# Altium integrated library Motorola Discrete BJT.IntLib: 383 symbols (part 4 of 6)
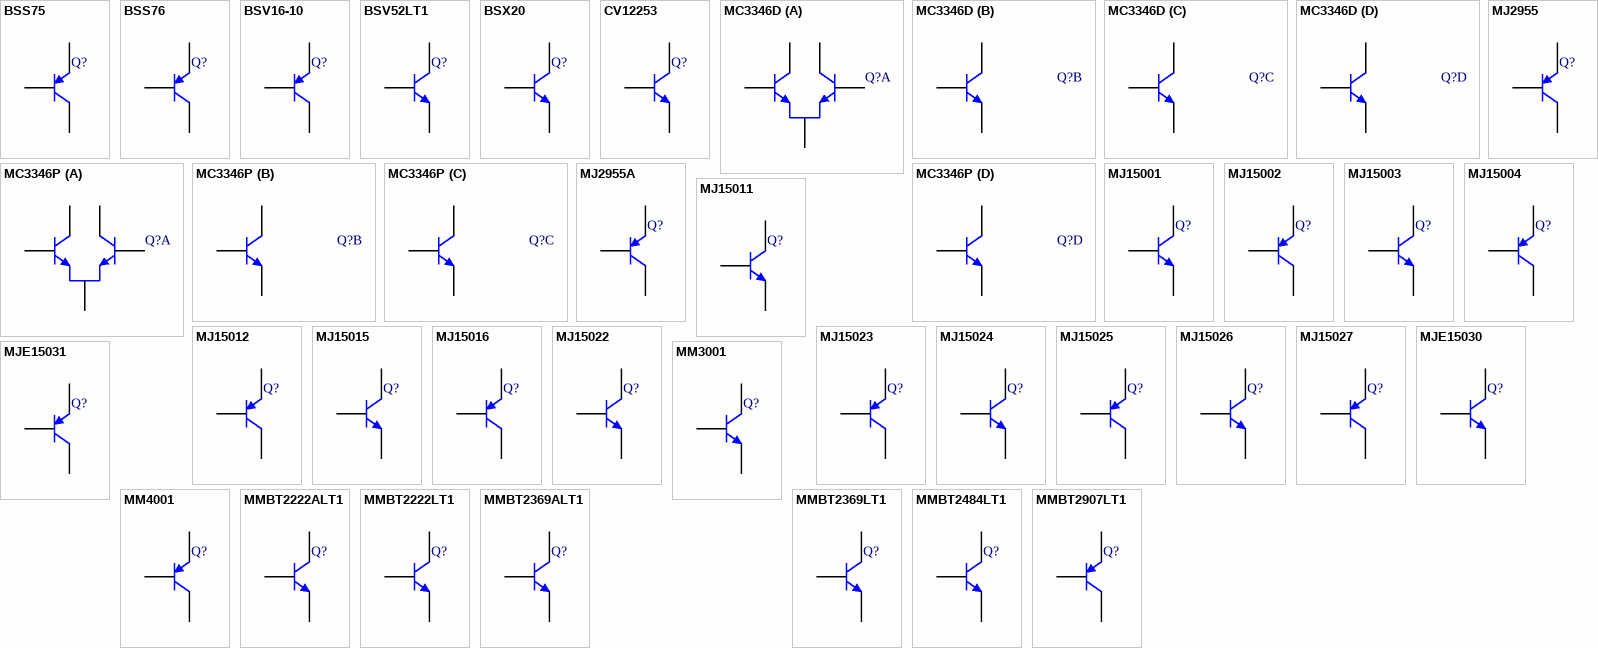
[diagram p14: symbols BSS75 to MMBT2907LT1]

## MJ2955A
designator Q?
Complementary Silicon High-Power PNP Transistor, 15 Amp, 60 Volts and 115 Watts; Published: 19-Mar-2004; DatasheetVersion: 1984; PackageVersion: Rev.3, 1984; PackageReference: 1-04; Publisher: Altium Limited; PackageDescription: Oval Flange Mount with (2) Offset Leads; Pin Spacing 10.92 mm; Lead Dia. 1.09 mm (max); Code_JEDEC: TO-204 AA; ComponentLink1Description: Manufacturer Link; ComponentLink1URL: http://www.onsemi.com/site/products/landing?taxonomyID=194
footprint 1-04 (Oval Flange Mount with (2) Offset Leads; Pin Spacing 10.92 mm; Lead Dia. 1.09 mm (max))
signal-integrity model MJ2955A
pins: 1 B, 2 E, 3 C

## MJ15001
designator Q?
Complementary Silicon Power NPN Transistor, 15 Amp, 140 Volts and 200 Watts; Published: 19-Mar-2004; DatasheetVersion: 1984; PackageVersion: Rev.3, 1984; PackageReference: 11-01; Publisher: Altium Limited; PackageDescription: Oval Flange Mount with (2) Offset Leads; Pin Spacing 10.93 mm; Lead Dia. 1.09 mm (max); Code_JEDEC: TO-3; ComponentLink1Description: Manufacturer Link; ComponentLink1URL: http://www.onsemi.com/site/products/landing?taxonomyID=194; ComponentLink2Description: Datasheet; ComponentLink2URL: http://www.onsemi.com/pub/Collateral/MJ15001-D.PDF
footprint 11-01 (Oval Flange Mount with (2) Offset Leads; Pin Spacing 10.93 mm; Lead Dia. 1.09 mm (max))
signal-integrity model MJ15001
pins: 1 B, 2 E, 3 C

## MJ15002
designator Q?
Complementary Silicon Power PNP Transistor, 15 Amp, 140 Volts and 200 Watts; Published: 19-Mar-2004; DatasheetVersion: 1984; PackageVersion: Rev.3, 1984; PackageReference: 11-01; Publisher: Altium Limited; PackageDescription: Oval Flange Mount with (2) Offset Leads; Pin Spacing 10.93 mm; Lead Dia. 1.09 mm (max); Code_JEDEC: TO-3; ComponentLink1Description: Manufacturer Link; ComponentLink1URL: http://www.onsemi.com/site/products/landing?taxonomyID=194; ComponentLink2Description: Datasheet; ComponentLink2URL: http://www.onsemi.com/pub/Collateral/MJ15001-D.PDF
footprint 11-01 (Oval Flange Mount with (2) Offset Leads; Pin Spacing 10.93 mm; Lead Dia. 1.09 mm (max))
signal-integrity model MJ15002
pins: 1 B, 2 E, 3 C

## MJ15003
designator Q?
Complementary Silicon Power NPN Transistor, 20 Amp, 140 Volts and 250 Watts; Published: 19-Mar-2004; DatasheetVersion: 1984; PackageVersion: Rev.3, 1984; PackageReference: 11-01; Publisher: Altium Limited; PackageDescription: Oval Flange Mount with (2) Offset Leads; Pin Spacing 10.93 mm; Lead Dia. 1.09 mm (max); Code_JEDEC: TO-3; ComponentLink1Description: Manufacturer Link; ComponentLink1URL: http://www.onsemi.com/site/products/landing?taxonomyID=194; ComponentLink2Description: Datasheet; ComponentLink2URL: http://www.onsemi.com/pub/Collateral/MJ15003-D.PDF
footprint 11-01 (Oval Flange Mount with (2) Offset Leads; Pin Spacing 10.93 mm; Lead Dia. 1.09 mm (max))
signal-integrity model MJ15003
pins: 1 B, 2 E, 3 C

## MJ15004
designator Q?
Complementary Silicon Power PNP Transistor, 20 Amp, 140 Volts and 250 Watts; Published: 19-Mar-2004; DatasheetVersion: 1984; PackageVersion: Rev.3, 1984; PackageReference: 11-01; Publisher: Altium Limited; PackageDescription: Oval Flange Mount with (2) Offset Leads; Pin Spacing 10.93 mm; Lead Dia. 1.09 mm (max); Code_JEDEC: TO-3; ComponentLink1Description: Manufacturer Link; ComponentLink1URL: http://www.onsemi.com/site/products/landing?taxonomyID=194; ComponentLink2Description: Datasheet; ComponentLink2URL: http://www.onsemi.com/pub/Collateral/MJ15003-D.PDF
footprint 11-01 (Oval Flange Mount with (2) Offset Leads; Pin Spacing 10.93 mm; Lead Dia. 1.09 mm (max))
signal-integrity model MJ15004
pins: 1 B, 2 E, 3 C

## MJ15011
designator Q?
Complementary Silicon Power NPN Transistor, 10 Amp, 250 Volts and 200 Watts; Published: 19-Mar-2004; DatasheetVersion: 1984; PackageVersion: Rev.3, 1984; PackageReference: 11-01; Publisher: Altium Limited; PackageDescription: Oval Flange Mount with (2) Offset Leads; Pin Spacing 10.93 mm; Lead Dia. 1.09 mm (max); Code_JEDEC: TO-3; ComponentLink1Description: Manufacturer Link; ComponentLink1URL: http://www.onsemi.com/site/products/landing?taxonomyID=194; ComponentLink2Description: Datasheet; ComponentLink2URL: http://www.onsemi.com/pub/Collateral/MJ15011-D.PDF
footprint 11-01 (Oval Flange Mount with (2) Offset Leads; Pin Spacing 10.93 mm; Lead Dia. 1.09 mm (max))
signal-integrity model MJ15011
pins: 1 B, 2 E, 3 C

## MJ15012
designator Q?
Complementary Silicon Power PNP Transistor, 10 Amp, 250 Volts and 200 Watts; Published: 19-Mar-2004; DatasheetVersion: 1984; PackageVersion: Rev.3, 1984; PackageReference: 11-01; Publisher: Altium Limited; PackageDescription: Oval Flange Mount with (2) Offset Leads; Pin Spacing 10.93 mm; Lead Dia. 1.09 mm (max); Code_JEDEC: TO-3; ComponentLink1Description: Manufacturer Link; ComponentLink1URL: http://www.onsemi.com/site/products/landing?taxonomyID=194; ComponentLink2Description: Datasheet; ComponentLink2URL: http://www.onsemi.com/pub/Collateral/MJ15011-D.PDF
footprint 11-01 (Oval Flange Mount with (2) Offset Leads; Pin Spacing 10.93 mm; Lead Dia. 1.09 mm (max))
signal-integrity model MJ15012
pins: 1 B, 2 E, 3 C

## MJ15015
designator Q?
Complementary Silicon High-Power NPN Transistor, 15 Amp, 120 Volts and 180 Watts; Published: 19-Mar-2004; DatasheetVersion: 1984; PackageVersion: Rev.3, 1984; PackageReference: 1-04; Publisher: Altium Limited; PackageDescription: Oval Flange Mount with (2) Offset Leads; Pin Spacing 10.92 mm; Lead Dia. 1.09 mm (max); Code_JEDEC: TO-204 AA; ComponentLink1Description: Manufacturer Link; ComponentLink1URL: http://www.onsemi.com/site/products/landing?taxonomyID=194; ComponentLink2Description: Datasheet; ComponentLink2URL: http://www.onsemi.com/pub/Collateral/2N3055A-D.PDF
footprint 1-04 (Oval Flange Mount with (2) Offset Leads; Pin Spacing 10.92 mm; Lead Dia. 1.09 mm (max))
signal-integrity model MJ15015
pins: 1 B, 2 E, 3 C

## MJ15016
designator Q?
Complementary Silicon High-Power PNP Transistor, 15 Amp, 120 Volts and 180 Watts; Published: 19-Mar-2004; DatasheetVersion: 1984; PackageVersion: Rev.3, 1984; PackageReference: 1-04; Publisher: Altium Limited; PackageDescription: Oval Flange Mount with (2) Offset Leads; Pin Spacing 10.92 mm; Lead Dia. 1.09 mm (max); Code_JEDEC: TO-204 AA; ComponentLink1Description: Manufacturer Link; ComponentLink1URL: http://www.onsemi.com/site/products/landing?taxonomyID=194; ComponentLink2Description: Datasheet; ComponentLink2URL: http://www.onsemi.com/pub/Collateral/2N3055A-D.PDF
footprint 1-04 (Oval Flange Mount with (2) Offset Leads; Pin Spacing 10.92 mm; Lead Dia. 1.09 mm (max))
signal-integrity model MJ15016
pins: 1 B, 2 E, 3 C

## MJ15022
designator Q?
Silicon Power NPN Transistor, 16 Amp, 200 Volts and 250 Watts; Published: 19-Mar-2004; DatasheetVersion: 1984; PackageVersion: Rev.3, 1984; PackageReference: 1-04; Publisher: Altium Limited; PackageDescription: Oval Flange Mount with (2) Offset Leads; Pin Spacing 10.92 mm; Lead Dia. 1.09 mm (max); Code_JEDEC: TO-204 AA; ComponentLink1Description: Manufacturer Link; ComponentLink1URL: http://www.onsemi.com/site/products/landing?taxonomyID=194; ComponentLink2Description: Datasheet; ComponentLink2URL: http://www.onsemi.com/pub/Collateral/MJ15022-D.PDF
footprint 1-04 (Oval Flange Mount with (2) Offset Leads; Pin Spacing 10.92 mm; Lead Dia. 1.09 mm (max))
signal-integrity model MJ15022
pins: 1 B, 2 E, 3 C

## MJ15023
designator Q?
Silicon Power PNP Transistor, 16 Amp, 200 Volts and 250 Watts; Published: 19-Mar-2004; DatasheetVersion: 1984; PackageVersion: Rev.3, 1984; PackageReference: 1-04; Publisher: Altium Limited; PackageDescription: Oval Flange Mount with (2) Offset Leads; Pin Spacing 10.92 mm; Lead Dia. 1.09 mm (max); Code_JEDEC: TO-204 AA; ComponentLink1Description: Manufacturer Link; ComponentLink1URL: http://www.onsemi.com/site/products/landing?taxonomyID=194; ComponentLink2Description: Datasheet; ComponentLink2URL: http://www.onsemi.com/pub/Collateral/MJ15023-D.PDF
footprint 1-04 (Oval Flange Mount with (2) Offset Leads; Pin Spacing 10.92 mm; Lead Dia. 1.09 mm (max))
signal-integrity model MJ15023
pins: 1 B, 2 E, 3 C

## MJ15024
designator Q?
Silicon Power NPN Transistor, 16 Amp, 250 Volts and 250 Watts; Published: 19-Mar-2004; DatasheetVersion: 1984; PackageVersion: Rev.3, 1984; PackageReference: 1-04; Publisher: Altium Limited; PackageDescription: Oval Flange Mount with (2) Offset Leads; Pin Spacing 10.92 mm; Lead Dia. 1.09 mm (max); Code_JEDEC: TO-204 AA; ComponentLink1Description: Manufacturer Link; ComponentLink1URL: http://www.onsemi.com/site/products/landing?taxonomyID=194; ComponentLink2Description: Datasheet; ComponentLink2URL: http://www.onsemi.com/pub/Collateral/MJ15022-D.PDF
footprint 1-04 (Oval Flange Mount with (2) Offset Leads; Pin Spacing 10.92 mm; Lead Dia. 1.09 mm (max))
signal-integrity model MJ15024
pins: 1 B, 2 E, 3 C

## MJ15025
designator Q?
Silicon Power PNP Transistor, 16 Amp, 250 Volts and 250 Watts; Published: 19-Mar-2004; DatasheetVersion: 1984; PackageVersion: Rev.3, 1984; PackageReference: 1-04; Publisher: Altium Limited; PackageDescription: Oval Flange Mount with (2) Offset Leads; Pin Spacing 10.92 mm; Lead Dia. 1.09 mm (max); Code_JEDEC: TO-204 AA; ComponentLink1Description: Manufacturer Link; ComponentLink1URL: http://www.onsemi.com/site/products/landing?taxonomyID=194; ComponentLink2Description: Datasheet; ComponentLink2URL: http://www.onsemi.com/pub/Collateral/MJ15023-D.PDF
footprint 1-04 (Oval Flange Mount with (2) Offset Leads; Pin Spacing 10.92 mm; Lead Dia. 1.09 mm (max))
signal-integrity model MJ15025
pins: 1 B, 2 E, 3 C

## MJ15026
designator Q?
Complementary Silicon Power NPN Transistor, 16 Amp, 200 Volts and 250 Watts; Published: 19-Mar-2004; DatasheetVersion: 1984; PackageVersion: Rev.3, 1984; PackageReference: 1-04; Publisher: Altium Limited; PackageDescription: Oval Flange Mount with (2) Offset Leads; Pin Spacing 10.92 mm; Lead Dia. 1.09 mm (max); Code_JEDEC: TO-204 AA; ComponentLink1Description: Manufacturer Link; ComponentLink1URL: http://www.onsemi.com/site/products/landing?taxonomyID=194
footprint 1-04 (Oval Flange Mount with (2) Offset Leads; Pin Spacing 10.92 mm; Lead Dia. 1.09 mm (max))
signal-integrity model MJ15026
pins: 1 B, 2 E, 3 C

## MJ15027
designator Q?
Complementary Silicon Power PNP Transistor, 16 Amp, 200 Volts and 250 Watts; Published: 19-Mar-2004; DatasheetVersion: 1984; PackageVersion: Rev.3, 1984; PackageReference: 1-04; Publisher: Altium Limited; PackageDescription: Oval Flange Mount with (2) Offset Leads; Pin Spacing 10.92 mm; Lead Dia. 1.09 mm (max); Code_JEDEC: TO-204 AA; ComponentLink1Description: Manufacturer Link; ComponentLink1URL: http://www.onsemi.com/site/products/landing?taxonomyID=194
footprint 1-04 (Oval Flange Mount with (2) Offset Leads; Pin Spacing 10.92 mm; Lead Dia. 1.09 mm (max))
signal-integrity model MJ15027
pins: 1 B, 2 E, 3 C

## MJE15030
designator Q?
Complementary Silicon Plastic Power Transistor; Note: Pin 2 is electrically connected to Pin 4 (TAB); Published: 29-Sep-2000; LatestRevisionDate: 17-Jul-2002; LatestRevisionNote: Re-released for DXP Platform.; DatasheetVersion: 1995; PackageVersion: 1997; PackageReference: 221A-06; Publisher: Altium Limited; PackageDescription: TO, Thru-Hole, Vertical, Heatsink Mounted; 3 In-Line Leads; Pitch 2.54 mm; Code_JEDEC: TO-262-AA; ComponentLink1Description: Manufacturer Link; ComponentLink1URL: http://www.onsemi.com/site/products/landing?taxonomyID=194; ComponentLink2Description: Datasheet; ComponentLink2URL: http://www.onsemi.com/pub/Collateral/MJE15028-D.PDF
footprint 221A-06 (TO, Thru-Hole, Vertical, Heatsink Mounted; 3 In-Line Leads; Pitch 2.54 mm)
simulation model MJE15030 (SUBCKT)
signal-integrity model MJE15030
pins: 1 B, 2 C, 3 E

## MJE15031
designator Q?
Complementary Silicon Plastic Power Transistor; Note: Pin 2 is electrically connected to Pin 4 (TAB); Published: 29-Sep-2000; LatestRevisionDate: 17-Jul-2002; LatestRevisionNote: Re-released for DXP Platform.; DatasheetVersion: 1995; PackageVersion: 1997; PackageReference: 221A-06; Publisher: Altium Limited; PackageDescription: TO, Thru-Hole, Vertical, Heatsink Mounted; 3 In-Line Leads; Pitch 2.54 mm; Code_JEDEC: TO-262-AA; ComponentLink1Description: Manufacturer Link; ComponentLink1URL: http://www.onsemi.com/site/products/landing?taxonomyID=194; ComponentLink2Description: Datasheet; ComponentLink2URL: http://www.onsemi.com/pub/Collateral/MJE15028-D.PDF
footprint 221A-06 (TO, Thru-Hole, Vertical, Heatsink Mounted; 3 In-Line Leads; Pitch 2.54 mm)
simulation model MJE15031 (SUBCKT)
signal-integrity model MJE15031
pins: 1 B, 2 C, 3 E

## MM3001
designator Q?
General Purpose Transistor NPN Silicon; Published: 29-Sep-2000; LatestRevisionDate: 17-Jul-2002; LatestRevisionNote: Re-released for DXP Platform.; PackageVersion: 1997; PackageReference: 79-04; Publisher: Altium Limited; PackageDescription: Can; 3 Leads; Pin Circle Dia. 5.08 mm; Lead Dia. 0.48 mm (max); ComponentLink1Description: Manufacturer Link; ComponentLink1URL: http://www.onsemi.com/site/products/landing?taxonomyID=194
footprint 79-04 (Can; 3 Leads; Pin Circle Dia. 5.08 mm; Lead Dia. 0.48 mm (max))
simulation model MM3001 (NPN)
signal-integrity model MM3001
pins: 1 E, 2 B, 3 C

## MM4001
designator Q?
General Purpose Transistor PNP Silicon; Published: 29-Sep-2000; LatestRevisionDate: 17-Jul-2002; LatestRevisionNote: Re-released for DXP Platform.; DatasheetVersion: 1991; PackageVersion: 1997; PackageReference: 79-04; Publisher: Altium Limited; PackageDescription: Can; 3 Leads; Pin Circle Dia. 5.08 mm; Lead Dia. 0.48 mm (max); ComponentLink1Description: Manufacturer Link; ComponentLink1URL: http://www.onsemi.com/site/products/landing?taxonomyID=194
footprint 79-04 (Can; 3 Leads; Pin Circle Dia. 5.08 mm; Lead Dia. 0.48 mm (max))
simulation model MM4001 (PNP)
signal-integrity model MM4001
pins: 1 E, 2 B, 3 C

## MMBT2222ALT1
designator Q?
General Purpose Transistor NPN Silicon; Published: 29-Sep-2000; LatestRevisionDate: 17-Jul-2002; LatestRevisionNote: Re-released for DXP Platform.; DatasheetVersion: 1996; PackageVersion: 1997; PackageReference: 318-08; Publisher: Altium Limited; PackageDescription: SOT-23; 3 Leads; Body 3.0 x 2.6 mm, inc. leads (LxW max); ComponentLink1Description: Manufacturer Link; ComponentLink1URL: http://www.onsemi.com/site/products/landing?taxonomyID=194; ComponentLink2Description: Datasheet; ComponentLink2URL: http://www.onsemi.com/pub/Collateral/MMBT2222LT1-D.PDF
footprint 318-08 (SOT-23; 3 Leads; Body 3.0 x 2.6 mm, inc. leads (LxW max))
simulation model MMBT2222ALT1 (NPN)
signal-integrity model MMBT2222ALT1
pins: 1 B, 2 E, 3 C

## MMBT2222LT1
designator Q?
General Purpose Transistor NPN Silicon; Published: 29-Sep-2000; LatestRevisionDate: 17-Jul-2002; LatestRevisionNote: Re-released for DXP Platform.; DatasheetVersion: 1996; PackageVersion: 1997; PackageReference: 318-08; Publisher: Altium Limited; PackageDescription: SOT-23; 3 Leads; Body 3.0 x 2.6 mm, inc. leads (LxW max); ComponentLink1Description: Manufacturer Link; ComponentLink1URL: http://www.onsemi.com/site/products/landing?taxonomyID=194; ComponentLink2Description: Datasheet; ComponentLink2URL: http://www.onsemi.com/pub/Collateral/MMBT2222LT1-D.PDF
footprint 318-08 (SOT-23; 3 Leads; Body 3.0 x 2.6 mm, inc. leads (LxW max))
simulation model MMBT2222LT1 (NPN)
signal-integrity model MMBT2222LT1
pins: 1 B, 2 E, 3 C

## MMBT2369ALT1
designator Q?
Switching Transistor NPN Silicon; Published: 29-Sep-2000; LatestRevisionDate: 17-Jul-2002; LatestRevisionNote: Re-released for DXP Platform.; DatasheetVersion: 1996; PackageVersion: 1997; PackageReference: 318-08; Publisher: Altium Limited; PackageDescription: SOT-23; 3 Leads; Body 3.0 x 2.6 mm, inc. leads (LxW max); ComponentLink1Description: Manufacturer Link; ComponentLink1URL: http://www.onsemi.com/site/products/landing?taxonomyID=194; ComponentLink2Description: Datasheet; ComponentLink2URL: http://www.onsemi.com/pub/Collateral/MMBT2369LT1-D.PDF
footprint 318-08 (SOT-23; 3 Leads; Body 3.0 x 2.6 mm, inc. leads (LxW max))
simulation model MMBT2369ALT1 (NPN)
signal-integrity model MMBT2369ALT1
pins: 1 B, 2 E, 3 C

## MMBT2369LT1
designator Q?
Switching Transistor NPN Silicon; Published: 29-Sep-2000; LatestRevisionDate: 17-Jul-2002; LatestRevisionNote: Re-released for DXP Platform.; DatasheetVersion: 1996; PackageVersion: 1997; PackageReference: 318-08; Publisher: Altium Limited; PackageDescription: SOT-23; 3 Leads; Body 3.0 x 2.6 mm, inc. leads (LxW max); ComponentLink1Description: Manufacturer Link; ComponentLink1URL: http://www.onsemi.com/site/products/landing?taxonomyID=194; ComponentLink2Description: Datasheet; ComponentLink2URL: http://www.onsemi.com/pub/Collateral/MMBT2369LT1-D.PDF
footprint 318-08 (SOT-23; 3 Leads; Body 3.0 x 2.6 mm, inc. leads (LxW max))
simulation model MMBT2369LT1 (NPN)
signal-integrity model MMBT2369LT1
pins: 1 B, 2 E, 3 C

## MMBT2484LT1
designator Q?
Low Noise Transistor NPN Silicon; Published: 29-Sep-2000; LatestRevisionDate: 17-Jul-2002; LatestRevisionNote: Re-released for DXP Platform.; DatasheetVersion: 1996; PackageVersion: 1997; PackageReference: 318-08; Publisher: Altium Limited; PackageDescription: SOT-23; 3 Leads; Body 3.0 x 2.6 mm, inc. leads (LxW max); ComponentLink1Description: Manufacturer Link; ComponentLink1URL: http://www.onsemi.com/site/products/landing?taxonomyID=194; ComponentLink2Description: Datasheet; ComponentLink2URL: http://www.onsemi.com/pub/Collateral/MMBT2484LT1-D.PDF
footprint 318-08 (SOT-23; 3 Leads; Body 3.0 x 2.6 mm, inc. leads (LxW max))
simulation model MMBT2484LT1 (NPN)
signal-integrity model MMBT2484LT1
pins: 1 B, 2 E, 3 C

## MMBT2907LT1
designator Q?
General Purpose Transistor PNP Silicon; Published: 29-Sep-2000; LatestRevisionDate: 17-Jul-2002; LatestRevisionNote: Re-released for DXP Platform.; DatasheetVersion: 1996; PackageVersion: 1997; PackageReference: 318-08; Publisher: Altium Limited; PackageDescription: SOT-23; 3 Leads; Body 3.0 x 2.6 mm, inc. leads (LxW max); ComponentLink1Description: Manufacturer Link; ComponentLink1URL: http://www.onsemi.com/site/products/landing?taxonomyID=194
footprint 318-08 (SOT-23; 3 Leads; Body 3.0 x 2.6 mm, inc. leads (LxW max))
simulation model MMBT2907LT1 (PNP)
signal-integrity model MMBT2907LT1
pins: 1 B, 2 E, 3 C

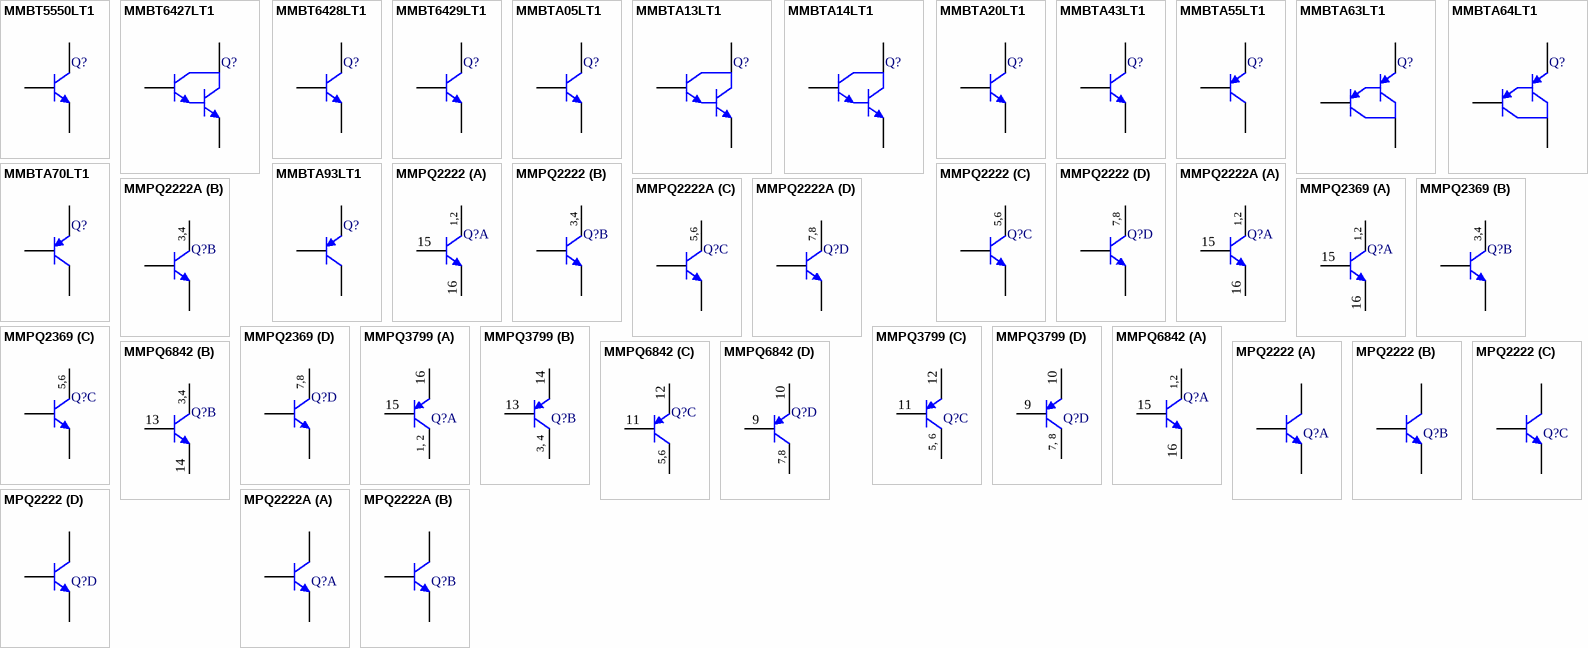
[diagram p6: symbols MMBT5550LT1 to MPQ2222A]

## MMBT5550LT1
designator Q?
High Voltage Transistor NPN Silicon; Published: 29-Sep-2000; LatestRevisionDate: 17-Jul-2002; LatestRevisionNote: Re-released for DXP Platform.; DatasheetVersion: 1996; PackageVersion: 1997; PackageReference: 318-08; Publisher: Altium Limited; PackageDescription: SOT-23; 3 Leads; Body 3.0 x 2.6 mm, inc. leads (LxW max); ComponentLink1Description: Manufacturer Link; ComponentLink1URL: http://www.onsemi.com/site/products/landing?taxonomyID=194; ComponentLink2Description: Datasheet; ComponentLink2URL: http://www.onsemi.com/pub/Collateral/MMBT5550LT1-D.PDF
footprint 318-08 (SOT-23; 3 Leads; Body 3.0 x 2.6 mm, inc. leads (LxW max))
simulation model MMBT5550LT1 (NPN)
signal-integrity model MMBT5550LT1
pins: 1 B, 2 E, 3 C

## MMBT6427LT1
designator Q?
Darlington Transistor NPN Silicon; Published: 29-Sep-2000; LatestRevisionDate: 17-Jul-2002; LatestRevisionNote: Re-released for DXP Platform.; DatasheetVersion: 1996; PackageVersion: 1997; PackageReference: 318-08; Publisher: Altium Limited; PackageDescription: SOT-23; 3 Leads; Body 3.0 x 2.6 mm, inc. leads (LxW max); ComponentLink1Description: Manufacturer Link; ComponentLink1URL: http://www.onsemi.com/site/products/landing?taxonomyID=194; ComponentLink2Description: Datasheet; ComponentLink2URL: http://www.onsemi.com/pub/Collateral/MMBT6427LT1-D.PDF
footprint 318-08 (SOT-23; 3 Leads; Body 3.0 x 2.6 mm, inc. leads (LxW max))
simulation model MMBT6427LT1 (SUBCKT)
pins: 1 B, 2 E, 3 C

## MMBT6428LT1
designator Q?
Amplifier Transistor NPN Silicon; Published: 29-Sep-2000; LatestRevisionDate: 17-Jul-2002; LatestRevisionNote: Re-released for DXP Platform.; DatasheetVersion: 1996; PackageVersion: 1997; PackageReference: 318-08; Publisher: Altium Limited; PackageDescription: SOT-23; 3 Leads; Body 3.0 x 2.6 mm, inc. leads (LxW max); ComponentLink1Description: Manufacturer Link; ComponentLink1URL: http://www.onsemi.com/site/products/landing?taxonomyID=194; ComponentLink2Description: Datasheet; ComponentLink2URL: http://www.onsemi.com/pub/Collateral/MMBT6428LT1-D.PDF
footprint 318-08 (SOT-23; 3 Leads; Body 3.0 x 2.6 mm, inc. leads (LxW max))
simulation model MMBT6428LT1 (NPN)
signal-integrity model MMBT6428LT1
pins: 1 B, 2 E, 3 C

## MMBT6429LT1
designator Q?
Amplifier Transistor NPN Silicon; Published: 29-Sep-2000; LatestRevisionDate: 17-Jul-2002; LatestRevisionNote: Re-released for DXP Platform.; DatasheetVersion: 1996; PackageVersion: 1997; PackageReference: 318-08; Publisher: Altium Limited; PackageDescription: SOT-23; 3 Leads; Body 3.0 x 2.6 mm, inc. leads (LxW max); ComponentLink1Description: Manufacturer Link; ComponentLink1URL: http://www.onsemi.com/site/products/landing?taxonomyID=194; ComponentLink2Description: Datasheet; ComponentLink2URL: http://www.onsemi.com/pub/Collateral/MMBT6428LT1-D.PDF
footprint 318-08 (SOT-23; 3 Leads; Body 3.0 x 2.6 mm, inc. leads (LxW max))
simulation model MMBT6429LT1 (NPN)
signal-integrity model MMBT6429LT1
pins: 1 B, 2 E, 3 C

## MMBTA05LT1
designator Q?
Driver Transistor NPN Silicon; Published: 29-Sep-2000; LatestRevisionDate: 17-Jul-2002; LatestRevisionNote: Re-released for DXP Platform.; DatasheetVersion: 1996; PackageVersion: 1997; PackageReference: 318-08; Publisher: Altium Limited; PackageDescription: SOT-23; 3 Leads; Body 3.0 x 2.6 mm, inc. leads (LxW max); ComponentLink1Description: Manufacturer Link; ComponentLink1URL: http://www.onsemi.com/site/products/landing?taxonomyID=194; ComponentLink2Description: Datasheet; ComponentLink2URL: http://www.onsemi.com/pub/Collateral/MMBTA05LT1-D.PDF
footprint 318-08 (SOT-23; 3 Leads; Body 3.0 x 2.6 mm, inc. leads (LxW max))
simulation model MMBTA05LT1 (NPN)
signal-integrity model MMBTA05LT1
pins: 1 B, 2 E, 3 C

## MMBTA13LT1
designator Q?
Darlington Amplifier Transistor NPN Silicon; Published: 29-Sep-2000; LatestRevisionDate: 17-Jul-2002; LatestRevisionNote: Re-released for DXP Platform.; DatasheetVersion: 1996; PackageVersion: 1997; PackageReference: 318-08; Publisher: Altium Limited; PackageDescription: SOT-23; 3 Leads; Body 3.0 x 2.6 mm, inc. leads (LxW max); ComponentLink1Description: Manufacturer Link; ComponentLink1URL: http://www.onsemi.com/site/products/landing?taxonomyID=194; ComponentLink2Description: Datasheet; ComponentLink2URL: http://www.onsemi.com/pub/Collateral/MMBTA13LT1-D.PDF
footprint 318-08 (SOT-23; 3 Leads; Body 3.0 x 2.6 mm, inc. leads (LxW max))
simulation model MMBTA13LT1 (SUBCKT)
pins: 1 B, 2 E, 3 C

## MMBTA14LT1
designator Q?
Darlington Amplifier Transistor NPN Silicon; Published: 29-Sep-2000; LatestRevisionDate: 17-Jul-2002; LatestRevisionNote: Re-released for DXP Platform.; DatasheetVersion: 1996; PackageVersion: 1997; PackageReference: 318-08; Publisher: Altium Limited; PackageDescription: SOT-23; 3 Leads; Body 3.0 x 2.6 mm, inc. leads (LxW max); ComponentLink1Description: Manufacturer Link; ComponentLink1URL: http://www.onsemi.com/site/products/landing?taxonomyID=194; ComponentLink2Description: Datasheet; ComponentLink2URL: http://www.onsemi.com/pub/Collateral/MMBTA13LT1-D.PDF
footprint 318-08 (SOT-23; 3 Leads; Body 3.0 x 2.6 mm, inc. leads (LxW max))
simulation model MMBTA14LT1 (SUBCKT)
pins: 1 B, 2 E, 3 C

## MMBTA20LT1
designator Q?
General Purpose Amplifier NPN Silicon; Published: 29-Sep-2000; LatestRevisionDate: 17-Jul-2002; LatestRevisionNote: Re-released for DXP Platform.; DatasheetVersion: 1996; PackageVersion: 1997; PackageReference: 318-08; Publisher: Altium Limited; PackageDescription: SOT-23; 3 Leads; Body 3.0 x 2.6 mm, inc. leads (LxW max); ComponentLink1Description: Manufacturer Link; ComponentLink1URL: http://www.onsemi.com/site/products/landing?taxonomyID=194; ComponentLink2Description: Datasheet; ComponentLink2URL: http://www.onsemi.com/pub/Collateral/MMBTA20LT1-D.PDF
footprint 318-08 (SOT-23; 3 Leads; Body 3.0 x 2.6 mm, inc. leads (LxW max))
simulation model MMBTA20LT1 (NPN)
signal-integrity model MMBTA20LT1
pins: 1 B, 2 E, 3 C

## MMBTA43LT1
designator Q?
High Voltage Transistor NPN Silicon; Published: 29-Sep-2000; LatestRevisionDate: 17-Jul-2002; LatestRevisionNote: Re-released for DXP Platform.; DatasheetVersion: 1991; PackageReference: 318-07; Publisher: Altium Limited; PackageDescription: SOT-23; 3 Leads; Body 3.0 x 2.5 mm, inc. leads (LxW max); ComponentLink1Description: Manufacturer Link; ComponentLink1URL: http://www.onsemi.com/site/products/landing?taxonomyID=194; ComponentLink2Description: Datasheet; ComponentLink2URL: http://www.onsemi.com/pub/Collateral/MMBTA42LT1-D.PDF
footprint 318-07 (SOT-23; 3 Leads; Body 3.0 x 2.5 mm, inc. leads (LxW max))
simulation model MMBTA43LT1 (NPN)
signal-integrity model MMBTA43LT1
pins: 1 B, 2 E, 3 C

## MMBTA55LT1
designator Q?
Driver Transistor PNP Silicon; Published: 29-Sep-2000; LatestRevisionDate: 17-Jul-2002; LatestRevisionNote: Re-released for DXP Platform.; DatasheetVersion: 1996; PackageVersion: 1997; PackageReference: 318-08; Publisher: Altium Limited; PackageDescription: SOT-23; 3 Leads; Body 3.0 x 2.6 mm, inc. leads (LxW max); ComponentLink1Description: Manufacturer Link; ComponentLink1URL: http://www.onsemi.com/site/products/landing?taxonomyID=194; ComponentLink2Description: Datasheet; ComponentLink2URL: http://www.onsemi.com/pub/Collateral/MMBTA55LT1-D.PDF
footprint 318-08 (SOT-23; 3 Leads; Body 3.0 x 2.6 mm, inc. leads (LxW max))
simulation model MMBTA55LT1 (PNP)
signal-integrity model MMBTA55LT1
pins: 1 B, 2 E, 3 C

## MMBTA63LT1
designator Q?
Darlington Transistor PNP Silicon; Published: 29-Sep-2000; LatestRevisionDate: 17-Jul-2002; LatestRevisionNote: Re-released for DXP Platform.; DatasheetVersion: 1996; PackageVersion: 1997; PackageReference: 318-08; Publisher: Altium Limited; PackageDescription: SOT-23; 3 Leads; Body 3.0 x 2.6 mm, inc. leads (LxW max); ComponentLink1Description: Manufacturer Link; ComponentLink1URL: http://www.onsemi.com/site/products/landing?taxonomyID=194; ComponentLink2Description: Datasheet; ComponentLink2URL: http://www.onsemi.com/pub/Collateral/MMBTA63LT1-D.PDF
footprint 318-08 (SOT-23; 3 Leads; Body 3.0 x 2.6 mm, inc. leads (LxW max))
simulation model MMBTA63LT1 (SUBCKT)
pins: 1 B, 2 E, 3 C

## MMBTA64LT1
designator Q?
Darlington Transistor PNP Silicon; Published: 29-Sep-2000; LatestRevisionDate: 17-Jul-2002; LatestRevisionNote: Re-released for DXP Platform.; DatasheetVersion: 1996; PackageVersion: 1997; PackageReference: 318-08; Publisher: Altium Limited; PackageDescription: SOT-23; 3 Leads; Body 3.0 x 2.6 mm, inc. leads (LxW max); ComponentLink1Description: Manufacturer Link; ComponentLink1URL: http://www.onsemi.com/site/products/landing?taxonomyID=194; ComponentLink2Description: Datasheet; ComponentLink2URL: http://www.onsemi.com/pub/Collateral/MMBTA63LT1-D.PDF
footprint 318-08 (SOT-23; 3 Leads; Body 3.0 x 2.6 mm, inc. leads (LxW max))
simulation model MMBTA64LT1 (SUBCKT)
pins: 1 B, 2 E, 3 C

## MMBTA70LT1
designator Q?
General Purpose Transistor PNP Silicon; Published: 29-Sep-2000; LatestRevisionDate: 17-Jul-2002; LatestRevisionNote: Re-released for DXP Platform.; DatasheetVersion: 1996; PackageVersion: 1997; PackageReference: 318-08; Publisher: Altium Limited; PackageDescription: SOT-23; 3 Leads; Body 3.0 x 2.6 mm, inc. leads (LxW max); ComponentLink1Description: Manufacturer Link; ComponentLink1URL: http://www.onsemi.com/site/products/landing?taxonomyID=194; ComponentLink2Description: Datasheet; ComponentLink2URL: http://www.onsemi.com/pub/Collateral/MMBTA70LT1-D.PDF
footprint 318-08 (SOT-23; 3 Leads; Body 3.0 x 2.6 mm, inc. leads (LxW max))
simulation model MMBTA70LT1 (PNP)
signal-integrity model MMBTA70LT1
pins: 1 B, 2 E, 3 C

## MMBTA93LT1
designator Q?
High Voltage Transistor PNP Silicon; Published: 29-Sep-2000; LatestRevisionDate: 17-Jul-2002; LatestRevisionNote: Re-released for DXP Platform.; DatasheetVersion: 1991; PackageReference: 318-07; Publisher: Altium Limited; PackageDescription: SOT-23; 3 Leads; Body 3.0 x 2.5 mm, inc. leads (LxW max); ComponentLink1Description: Manufacturer Link; ComponentLink1URL: http://www.onsemi.com/site/products/landing?taxonomyID=194; ComponentLink2Description: Datasheet; ComponentLink2URL: http://www.onsemi.com/pub/Collateral/MMBTA92LT1-D.PDF
footprint 318-07 (SOT-23; 3 Leads; Body 3.0 x 2.5 mm, inc. leads (LxW max))
simulation model MMBTA93LT1 (PNP)
signal-integrity model MMBTA93LT1
pins: 1 B, 2 E, 3 C

## MMPQ2222
designator Q?
Quad General Purpose Transistor NPN Silicon; Published: 29-Sep-2000; LatestRevisionDate: 13-Apr-2006; LatestRevisionNote: IPC-7351 Footprint Added.; DatasheetVersion: 1991; PackageVersion: 1991; PackageReference: 751B-03; Publisher: Altium Limited; PackageDescription: 16-Pin Small Outline Integrated Circuit 1.27 mm Pitch; Code_JEDEC: MS-012-AC; Code_IPC: SOIC127P600-16; ComponentLink1Description: Manufacturer Link; ComponentLink1URL: http://www.onsemi.com/site/products/landing?taxonomyID=194; ComponentLink2Description: Datasheet; ComponentLink2URL: http://www.onsemi.com/pub/Collateral/MMPQ2222A-D.PDF
footprint 751B-03_N (SOIC, 16-Leads, Body 9.9x3.9mm, Pitch 1.27mm, IPC Medium Density)
footprint 751B-03_L (SOIC, 16-Leads, Body 9.9x3.9mm, Pitch 1.27mm, IPC High Density)
footprint 751B-03_M (SOIC, 16-Leads, Body 9.9x3.9mm, Pitch 1.27mm, IPC Low Density)
3D model 751B-03 (16-Pin Small Outline Integrated Circuit 1.27 mm Pitch)
simulation model MMPQ2222 (NPN)
signal-integrity model MMPQ2222
part A pins: 1 C, 2 C, 15 B, 16 E
part B pins: 3 C, 4 C, 13 B, 14 E
part C pins: 5 C, 6 C, 11 B, 12 E
part D pins: 7 C, 8 C, 9 B, 10 E
part A text: 1,2
part B text: 3,4
part C text: 5,6
part D text: 7,8

## MMPQ2222A
designator Q?
Quad General Purpose Transistor NPN Silicon; Published: 29-Sep-2000; LatestRevisionDate: 13-Apr-2006; LatestRevisionNote: IPC-7351 Footprint Added.; DatasheetVersion: 1991; PackageVersion: 1991; PackageReference: 751B-03; Publisher: Altium Limited; PackageDescription: 16-Pin Small Outline Integrated Circuit 1.27 mm Pitch; Code_JEDEC: MS-012-AC; Code_IPC: SOIC127P600-16; ComponentLink1Description: Manufacturer Link; ComponentLink1URL: http://www.onsemi.com/site/products/landing?taxonomyID=194; ComponentLink2Description: Datasheet; ComponentLink2URL: http://www.onsemi.com/pub/Collateral/MMPQ2222A-D.PDF
footprint 751B-03_N (SOIC, 16-Leads, Body 9.9x3.9mm, Pitch 1.27mm, IPC Medium Density)
footprint 751B-03_L (SOIC, 16-Leads, Body 9.9x3.9mm, Pitch 1.27mm, IPC High Density)
footprint 751B-03_M (SOIC, 16-Leads, Body 9.9x3.9mm, Pitch 1.27mm, IPC Low Density)
3D model 751B-03 (16-Pin Small Outline Integrated Circuit 1.27 mm Pitch)
simulation model MMPQ2222A (NPN)
signal-integrity model MMPQ2222A
part A pins: 1 C, 2 C, 15 B, 16 E
part B pins: 3 C, 4 C, 13 B, 14 E
part C pins: 5 C, 6 C, 11 B, 12 E
part D pins: 7 C, 8 C, 9 B, 10 E
part A text: 1,2
part B text: 3,4
part C text: 5,6
part D text: 7,8

## MMPQ2369
designator Q?
Quad Switching Transistor NPN Silicon; Published: 29-Sep-2000; LatestRevisionDate: 13-Apr-2006; LatestRevisionNote: IPC-7351 Footprint Added.; DatasheetVersion: 1991; PackageVersion: 1991; PackageReference: 751B-03; Publisher: Altium Limited; PackageDescription: 16-Pin Small Outline Integrated Circuit 1.27 mm Pitch; Code_JEDEC: MS-012-AC; Code_IPC: SOIC127P600-16; ComponentLink1Description: Manufacturer Link; ComponentLink1URL: http://www.onsemi.com/site/products/landing?taxonomyID=194; ComponentLink2Description: Datasheet; ComponentLink2URL: http://www.onsemi.com/pub/Collateral/MMPQ2369-D.PDF
footprint 751B-03_N (SOIC, 16-Leads, Body 9.9x3.9mm, Pitch 1.27mm, IPC Medium Density)
footprint 751B-03_L (SOIC, 16-Leads, Body 9.9x3.9mm, Pitch 1.27mm, IPC High Density)
footprint 751B-03_M (SOIC, 16-Leads, Body 9.9x3.9mm, Pitch 1.27mm, IPC Low Density)
3D model 751B-03 (16-Pin Small Outline Integrated Circuit 1.27 mm Pitch)
simulation model MMPQ2369 (NPN)
signal-integrity model MMPQ2369
part A pins: 1 C, 2 C, 15 B, 16 E
part B pins: 3 C, 4 C, 13 B, 14 E
part C pins: 5 C, 6 C, 11 B, 12 E
part D pins: 7 C, 8 C, 9 B, 10 E
part A text: 1,2
part B text: 3,4
part C text: 5,6
part D text: 7,8

## MMPQ3799
designator Q?
Quad Amplifier Transistor PNP Silicon; Published: 29-Sep-2000; LatestRevisionDate: 13-Apr-2006; LatestRevisionNote: IPC-7351 Footprint Added.; DatasheetVersion: 1991; PackageVersion: 1991; PackageReference: 751B-03; Publisher: Altium Limited; PackageDescription: 16-Pin Small Outline Integrated Circuit 1.27 mm Pitch; Code_JEDEC: MS-012-AC; Code_IPC: SOIC127P600-16; ComponentLink1Description: Manufacturer Link; ComponentLink1URL: http://www.onsemi.com/site/products/landing?taxonomyID=194
footprint 751B-03_N (SOIC, 16-Leads, Body 9.9x3.9mm, Pitch 1.27mm, IPC Medium Density)
footprint 751B-03_L (SOIC, 16-Leads, Body 9.9x3.9mm, Pitch 1.27mm, IPC High Density)
footprint 751B-03_M (SOIC, 16-Leads, Body 9.9x3.9mm, Pitch 1.27mm, IPC Low Density)
3D model 751B-03 (16-Pin Small Outline Integrated Circuit 1.27 mm Pitch)
simulation model MMPQ3799 (PNP)
signal-integrity model MMPQ3799
part A pins: 1 C, 2 C, 15 B, 16 E
part B pins: 3 C, 4 C, 13 B, 14 E
part C pins: 5 C, 6 C, 11 B, 12 E
part D pins: 7 C, 8 C, 9 B, 10 E
part A text: 1, 2
part B text: 3, 4
part C text: 5, 6
part D text: 7, 8

## MMPQ6842
designator Q?
Quad MPU Clock Buffer Transistor; Published: 29-Sep-2000; LatestRevisionDate: 13-Apr-2006; LatestRevisionNote: IPC-7351 Footprint Added.; DatasheetVersion: 1991; PackageVersion: 1991; PackageReference: 751B-03; Publisher: Altium Limited; PackageDescription: 16-Pin Small Outline Integrated Circuit 1.27 mm Pitch; Code_JEDEC: MS-012-AC; Code_IPC: SOIC127P600-16; ComponentLink1Description: Manufacturer Link; ComponentLink1URL: http://www.onsemi.com/site/products/landing?taxonomyID=194; ComponentLink2Description: Datasheet; ComponentLink2URL: http://www.onsemi.com/pub/Collateral/BUV27.PDF
footprint 751B-03_N (SOIC, 16-Leads, Body 9.9x3.9mm, Pitch 1.27mm, IPC Medium Density)
footprint 751B-03_L (SOIC, 16-Leads, Body 9.9x3.9mm, Pitch 1.27mm, IPC High Density)
footprint 751B-03_M (SOIC, 16-Leads, Body 9.9x3.9mm, Pitch 1.27mm, IPC Low Density)
3D model 751B-03 (16-Pin Small Outline Integrated Circuit 1.27 mm Pitch)
simulation model MMPQ6842 (NPN)
signal-integrity model MMPQ6842
part A pins: 1 C, 2 C, 15 B, 16 E
part B pins: 3 C, 4 C, 13 B, 14 E
part C pins: 5 C, 6 C, 11 B, 12 E
part D pins: 7 C, 8 C, 9 B, 10 E
part A text: 1,2
part B text: 3,4
part C text: 5,6
part D text: 7,8

## MPQ2222
designator Q?
Quad General Purpose Transistor NPN Silicon; Note: Pins 4 and 11 are not connected and not drawn.; Published: 29-Sep-2000; LatestRevisionDate: 06-Jun-2005; LatestRevisionNote: Stylized 3D Model Added.; DatasheetVersion: 1991; PackageVersion: 1997; PackageReference: 646-06; Publisher: Altium Limited; PackageDescription: DIP; 14 Leads; Row Spacing 7.62 mm; Pitch 2.54 mm; ComponentLink1Description: Manufacturer Link; ComponentLink1URL: http://www.onsemi.com/site/products/landing?taxonomyID=194; ComponentLink2Description: Datasheet; ComponentLink2URL: http://www.onsemi.com/pub/Collateral/MMPQ2222A-D.PDF
footprint 646-06 (DIP; 14 Leads; Row Spacing 7.62 mm; Pitch 2.54 mm)
3D model 646-06 (DIP; 14 Leads; Row Spacing 7.62 mm; Pitch 2.54 mm)
simulation model MPQ2222 (NPN)
signal-integrity model MPQ2222
part A pins: 1 C, 2 B, 3 E
part B pins: 5 E, 6 B, 7 C
part C pins: 8 C, 9 B, 10 E
part D pins: 12 E, 13 B, 14 C

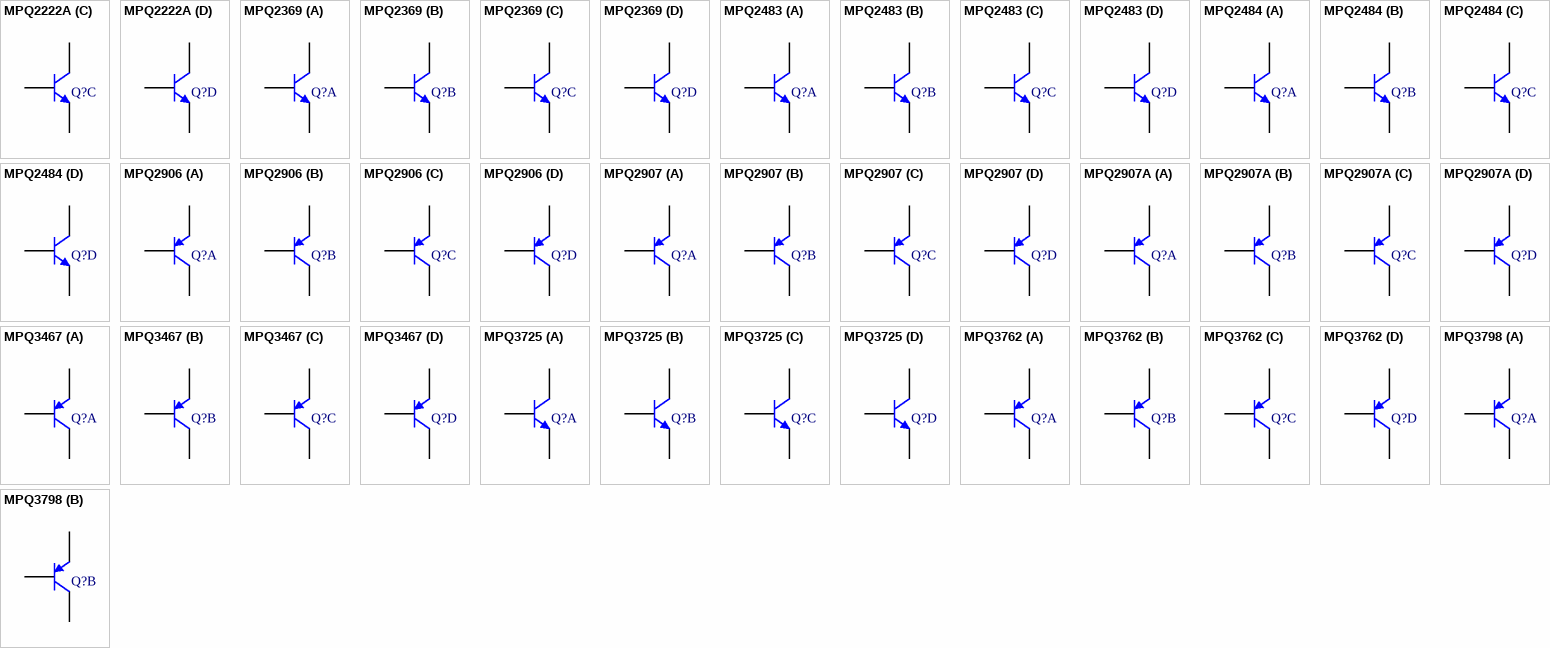
[diagram p7: symbols MPQ2222A to MPQ3798]

## MPQ2222A
designator Q?
Quad General Purpose Transistor NPN Silicon; Note: Pins 4 and 11 are not connected and not drawn.; Published: 29-Sep-2000; LatestRevisionDate: 06-Jun-2005; LatestRevisionNote: Stylized 3D Model Added.; DatasheetVersion: 1991; PackageVersion: 1997; PackageReference: 646-06; Publisher: Altium Limited; PackageDescription: DIP; 14 Leads; Row Spacing 7.62 mm; Pitch 2.54 mm; ComponentLink1Description: Manufacturer Link; ComponentLink1URL: http://www.onsemi.com/site/products/landing?taxonomyID=194; ComponentLink2Description: Datasheet; ComponentLink2URL: http://www.onsemi.com/pub/Collateral/MMPQ2222A-D.PDF
footprint 646-06 (DIP; 14 Leads; Row Spacing 7.62 mm; Pitch 2.54 mm)
3D model 646-06 (DIP; 14 Leads; Row Spacing 7.62 mm; Pitch 2.54 mm)
simulation model MPQ2222A (NPN)
signal-integrity model MPQ2222A
part A pins: 1 C, 2 B, 3 E
part B pins: 5 E, 6 B, 7 C
part C pins: 8 C, 9 B, 10 E
part D pins: 12 E, 13 B, 14 C

## MPQ2369
designator Q?
Quad Switching Transistor NPN Silicon; Note: Pins 4 and 11 are not connected and not drawn.; Published: 29-Sep-2000; LatestRevisionDate: 06-Jun-2005; LatestRevisionNote: Stylized 3D Model Added.; DatasheetVersion: 1991; PackageVersion: 1997; PackageReference: 646-06; Publisher: Altium Limited; PackageDescription: DIP; 14 Leads; Row Spacing 7.62 mm; Pitch 2.54 mm; ComponentLink1Description: Manufacturer Link; ComponentLink1URL: http://www.onsemi.com/site/products/landing?taxonomyID=194; ComponentLink2Description: Datasheet; ComponentLink2URL: http://www.onsemi.com/pub/Collateral/MMPQ2369-D.PDF
footprint 646-06 (DIP; 14 Leads; Row Spacing 7.62 mm; Pitch 2.54 mm)
3D model 646-06 (DIP; 14 Leads; Row Spacing 7.62 mm; Pitch 2.54 mm)
simulation model MPQ2369 (NPN)
signal-integrity model MPQ2369
part A pins: 1 C, 2 B, 3 E
part B pins: 5 E, 6 B, 7 C
part C pins: 8 C, 9 B, 10 E
part D pins: 12 E, 13 B, 14 C

## MPQ2483
designator Q?
Quad Amplifier Transistor NPN Silicon; Note: Pins 4 and 11 are not connected and not drawn.; Published: 29-Sep-2000; LatestRevisionDate: 06-Jun-2005; LatestRevisionNote: Stylized 3D Model Added.; DatasheetVersion: 1991; PackageVersion: 1997; PackageReference: 646-06; Publisher: Altium Limited; PackageDescription: DIP; 14 Leads; Row Spacing 7.62 mm; Pitch 2.54 mm; ComponentLink1Description: Manufacturer Link; ComponentLink1URL: http://www.onsemi.com/site/products/landing?taxonomyID=194
footprint 646-06 (DIP; 14 Leads; Row Spacing 7.62 mm; Pitch 2.54 mm)
3D model 646-06 (DIP; 14 Leads; Row Spacing 7.62 mm; Pitch 2.54 mm)
simulation model MPQ2483 (NPN)
signal-integrity model MPQ2483
part A pins: 1 C, 2 B, 3 E
part B pins: 5 E, 6 B, 7 C
part C pins: 8 C, 9 B, 10 E
part D pins: 12 E, 13 B, 14 C

## MPQ2484
designator Q?
Quad Amplifier Transistor NPN Silicon; Note: Pins 4 and 11 are not connected and not drawn.; Published: 29-Sep-2000; LatestRevisionDate: 06-Jun-2005; LatestRevisionNote: Stylized 3D Model Added.; DatasheetVersion: 1991; PackageVersion: 1997; PackageReference: 646-06; Publisher: Altium Limited; PackageDescription: DIP; 14 Leads; Row Spacing 7.62 mm; Pitch 2.54 mm; ComponentLink1Description: Manufacturer Link; ComponentLink1URL: http://www.onsemi.com/site/products/landing?taxonomyID=194
footprint 646-06 (DIP; 14 Leads; Row Spacing 7.62 mm; Pitch 2.54 mm)
3D model 646-06 (DIP; 14 Leads; Row Spacing 7.62 mm; Pitch 2.54 mm)
simulation model MPQ2484 (NPN)
signal-integrity model MPQ2484
part A pins: 1 C, 2 B, 3 E
part B pins: 5 E, 6 B, 7 C
part C pins: 8 C, 9 B, 10 E
part D pins: 12 E, 13 B, 14 C

## MPQ2906
designator Q?
Quad General Purpose Transistor PNP Silicon; Note: Pins 4 and 11 are not connected and not drawn.; Published: 29-Sep-2000; LatestRevisionDate: 06-Jun-2005; LatestRevisionNote: Stylized 3D Model Added.; DatasheetVersion: 1991; PackageVersion: 1997; PackageReference: 646-06; Publisher: Altium Limited; PackageDescription: DIP; 14 Leads; Row Spacing 7.62 mm; Pitch 2.54 mm; ComponentLink1Description: Manufacturer Link; ComponentLink1URL: http://www.onsemi.com/site/products/landing?taxonomyID=194
footprint 646-06 (DIP; 14 Leads; Row Spacing 7.62 mm; Pitch 2.54 mm)
3D model 646-06 (DIP; 14 Leads; Row Spacing 7.62 mm; Pitch 2.54 mm)
simulation model MPQ2906 (PNP)
signal-integrity model MPQ2906
part A pins: 1 C, 2 B, 3 E
part B pins: 5 E, 6 B, 7 C
part C pins: 8 C, 9 B, 10 E
part D pins: 12 E, 13 B, 14 C

## MPQ2907
designator Q?
Quad General Purpose Transistor PNP Silicon; Note: Pins 4 and 11 are not connected and not drawn.; Published: 29-Sep-2000; LatestRevisionDate: 06-Jun-2005; LatestRevisionNote: Stylized 3D Model Added.; DatasheetVersion: 1991; PackageVersion: 1997; PackageReference: 646-06; Publisher: Altium Limited; PackageDescription: DIP; 14 Leads; Row Spacing 7.62 mm; Pitch 2.54 mm; ComponentLink1Description: Manufacturer Link; ComponentLink1URL: http://www.onsemi.com/site/products/landing?taxonomyID=194
footprint 646-06 (DIP; 14 Leads; Row Spacing 7.62 mm; Pitch 2.54 mm)
3D model 646-06 (DIP; 14 Leads; Row Spacing 7.62 mm; Pitch 2.54 mm)
simulation model MPQ2907 (PNP)
signal-integrity model MPQ2907
part A pins: 1 C, 2 B, 3 E
part B pins: 5 E, 6 B, 7 C
part C pins: 8 C, 9 B, 10 E
part D pins: 12 E, 13 B, 14 C

## MPQ2907A
designator Q?
Quad General Purpose Transistor PNP Silicon; Note: Pins 4 and 11 are not connected and not drawn.; Published: 29-Sep-2000; LatestRevisionDate: 06-Jun-2005; LatestRevisionNote: Stylized 3D Model Added.; DatasheetVersion: 1991; PackageVersion: 1997; PackageReference: 646-06; Publisher: Altium Limited; PackageDescription: DIP; 14 Leads; Row Spacing 7.62 mm; Pitch 2.54 mm; ComponentLink1Description: Manufacturer Link; ComponentLink1URL: http://www.onsemi.com/site/products/landing?taxonomyID=194
footprint 646-06 (DIP; 14 Leads; Row Spacing 7.62 mm; Pitch 2.54 mm)
3D model 646-06 (DIP; 14 Leads; Row Spacing 7.62 mm; Pitch 2.54 mm)
simulation model MPQ2907A (PNP)
signal-integrity model MPQ2907A
part A pins: 1 C, 2 B, 3 E
part B pins: 5 E, 6 B, 7 C
part C pins: 8 C, 9 B, 10 E
part D pins: 12 E, 13 B, 14 C

## MPQ3467
designator Q?
Quad Memory Driver Transistor PNP Silicon; Note: Pins 4 and 11 are not connected and not drawn.; Published: 29-Sep-2000; LatestRevisionDate: 06-Jun-2005; LatestRevisionNote: Stylized 3D Model Added.; DatasheetVersion: 1991; PackageVersion: 1997; PackageReference: 646-06; Publisher: Altium Limited; PackageDescription: DIP; 14 Leads; Row Spacing 7.62 mm; Pitch 2.54 mm; ComponentLink1Description: Manufacturer Link; ComponentLink1URL: http://www.onsemi.com/site/products/landing?taxonomyID=194; ComponentLink2Description: Datasheet; ComponentLink2URL: http://www.onsemi.com/pub/Collateral/MMPQ3467-D.PDF
footprint 646-06 (DIP; 14 Leads; Row Spacing 7.62 mm; Pitch 2.54 mm)
3D model 646-06 (DIP; 14 Leads; Row Spacing 7.62 mm; Pitch 2.54 mm)
simulation model MPQ3467 (PNP)
signal-integrity model MPQ3467
part A pins: 1 C, 2 B, 3 E
part B pins: 5 E, 6 B, 7 C
part C pins: 8 C, 9 B, 10 E
part D pins: 12 E, 13 B, 14 C

## MPQ3725
designator Q?
Quad Core Driver Transistor NPN Silicon; Note: Pins 4 and 11 are not connected and not drawn.; Published: 29-Sep-2000; LatestRevisionDate: 06-Jun-2005; LatestRevisionNote: Stylized 3D Model Added.; DatasheetVersion: 1991; PackageVersion: 1997; PackageReference: 646-06; Publisher: Altium Limited; PackageDescription: DIP; 14 Leads; Row Spacing 7.62 mm; Pitch 2.54 mm; ComponentLink1Description: Manufacturer Link; ComponentLink1URL: http://www.onsemi.com/site/products/landing?taxonomyID=194
footprint 646-06 (DIP; 14 Leads; Row Spacing 7.62 mm; Pitch 2.54 mm)
3D model 646-06 (DIP; 14 Leads; Row Spacing 7.62 mm; Pitch 2.54 mm)
simulation model MPQ3725 (NPN)
signal-integrity model MPQ3725
part A pins: 1 C, 2 B, 3 E
part B pins: 5 E, 6 B, 7 C
part C pins: 8 C, 9 B, 10 E
part D pins: 12 E, 13 B, 14 C

## MPQ3762
designator Q?
Quad Memory Driver Transistor PNP Silicon; Note: Pins 4 and 11 are not connected and not drawn.; Published: 29-Sep-2000; LatestRevisionDate: 06-Jun-2005; LatestRevisionNote: Stylized 3D Model Added.; DatasheetVersion: 1991; PackageVersion: 1997; PackageReference: 646-06; Publisher: Altium Limited; PackageDescription: DIP; 14 Leads; Row Spacing 7.62 mm; Pitch 2.54 mm; ComponentLink1Description: Manufacturer Link; ComponentLink1URL: http://www.onsemi.com/site/products/landing?taxonomyID=194
footprint 646-06 (DIP; 14 Leads; Row Spacing 7.62 mm; Pitch 2.54 mm)
3D model 646-06 (DIP; 14 Leads; Row Spacing 7.62 mm; Pitch 2.54 mm)
simulation model MPQ3762 (PNP)
signal-integrity model MPQ3762
part A pins: 1 C, 2 B, 3 E
part B pins: 5 E, 6 B, 7 C
part C pins: 8 C, 9 B, 10 E
part D pins: 12 E, 13 B, 14 C

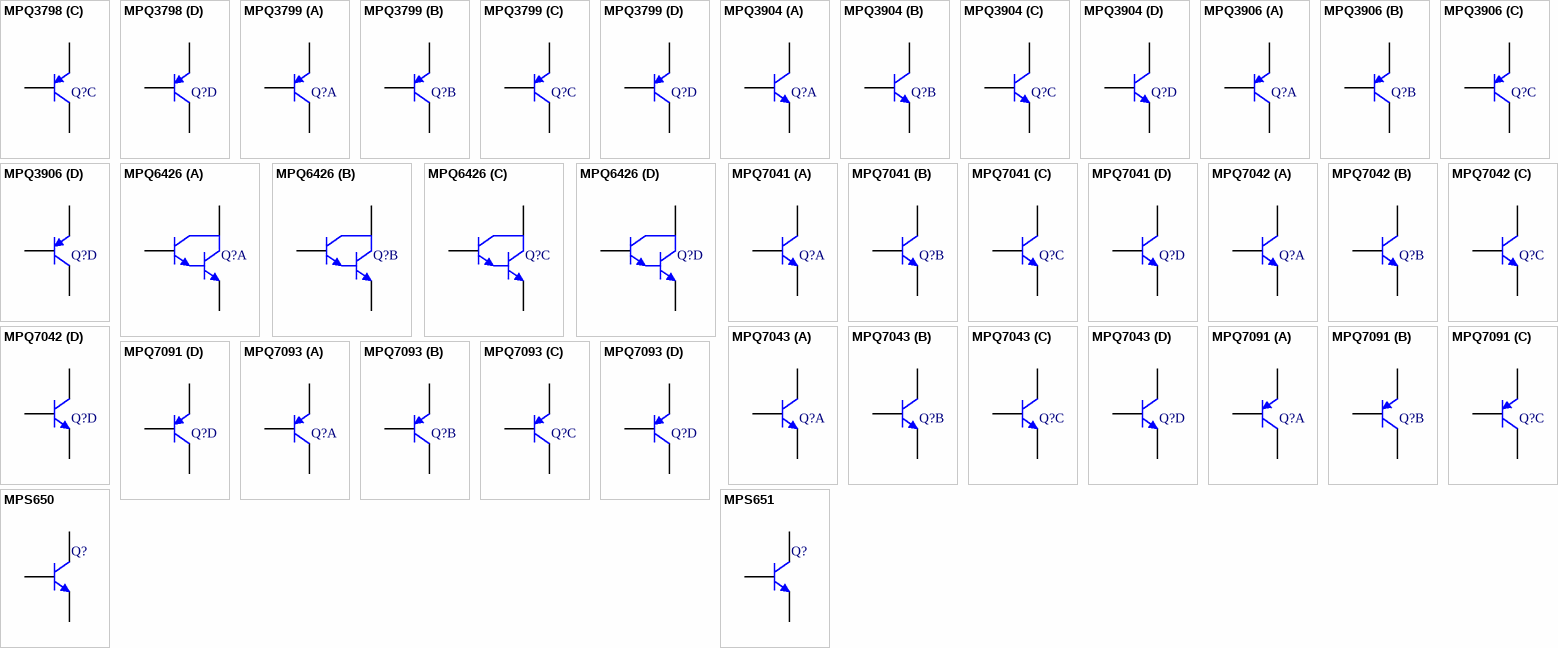
[diagram p8: symbols MPQ3798 to MPS651]

## MPQ3798
designator Q?
Quad Amplifier Transistor PNP Silicon; Note: Pins 4 and 11 are not connected and not drawn.; Published: 29-Sep-2000; LatestRevisionDate: 06-Jun-2005; LatestRevisionNote: Stylized 3D Model Added.; DatasheetVersion: 1991; PackageVersion: 1997; PackageReference: 646-06; Publisher: Altium Limited; PackageDescription: DIP; 14 Leads; Row Spacing 7.62 mm; Pitch 2.54 mm; ComponentLink1Description: Manufacturer Link; ComponentLink1URL: http://www.onsemi.com/site/products/landing?taxonomyID=194
footprint 646-06 (DIP; 14 Leads; Row Spacing 7.62 mm; Pitch 2.54 mm)
3D model 646-06 (DIP; 14 Leads; Row Spacing 7.62 mm; Pitch 2.54 mm)
simulation model MPQ3798 (PNP)
signal-integrity model MPQ3798
part A pins: 1 C, 2 B, 3 E
part B pins: 5 E, 6 B, 7 C
part C pins: 8 C, 9 B, 10 E
part D pins: 12 E, 13 B, 14 C

## MPQ3799
designator Q?
Quad Amplifier Transistor PNP Silicon; Note: Pins 4 and 11 are not connected and not drawn.; Published: 29-Sep-2000; LatestRevisionDate: 06-Jun-2005; LatestRevisionNote: Stylized 3D Model Added.; DatasheetVersion: 1991; PackageVersion: 1997; PackageReference: 646-06; Publisher: Altium Limited; PackageDescription: DIP; 14 Leads; Row Spacing 7.62 mm; Pitch 2.54 mm; ComponentLink1Description: Manufacturer Link; ComponentLink1URL: http://www.onsemi.com/site/products/landing?taxonomyID=194
footprint 646-06 (DIP; 14 Leads; Row Spacing 7.62 mm; Pitch 2.54 mm)
3D model 646-06 (DIP; 14 Leads; Row Spacing 7.62 mm; Pitch 2.54 mm)
simulation model MPQ3799 (PNP)
signal-integrity model MPQ3799
part A pins: 1 C, 2 B, 3 E
part B pins: 5 E, 6 B, 7 C
part C pins: 8 C, 9 B, 10 E
part D pins: 12 E, 13 B, 14 C

## MPQ3904
designator Q?
Quad Amplifier Switching Transistor NPN Silicon; Note: Pins 4 and 11 are not connected and not drawn.; Published: 29-Sep-2000; LatestRevisionDate: 06-Jun-2005; LatestRevisionNote: Stylized 3D Model Added.; DatasheetVersion: 1991; PackageVersion: 1997; PackageReference: 646-06; Publisher: Altium Limited; PackageDescription: DIP; 14 Leads; Row Spacing 7.62 mm; Pitch 2.54 mm; ComponentLink1Description: Manufacturer Link; ComponentLink1URL: http://www.onsemi.com/site/products/landing?taxonomyID=194
footprint 646-06 (DIP; 14 Leads; Row Spacing 7.62 mm; Pitch 2.54 mm)
3D model 646-06 (DIP; 14 Leads; Row Spacing 7.62 mm; Pitch 2.54 mm)
simulation model MPQ3904 (NPN)
signal-integrity model MPQ3904
part A pins: 1 C, 2 B, 3 E
part B pins: 5 E, 6 B, 7 C
part C pins: 8 C, 9 B, 10 E
part D pins: 12 E, 13 B, 14 C

## MPQ3906
designator Q?
Quad Amplifier Switching Transistor PNP Silicon; Note: Pins 4 and 11 are not connected and not drawn.; Published: 29-Sep-2000; LatestRevisionDate: 06-Jun-2005; LatestRevisionNote: Stylized 3D Model Added.; DatasheetVersion: 1991; PackageVersion: 1997; PackageReference: 646-06; Publisher: Altium Limited; PackageDescription: DIP; 14 Leads; Row Spacing 7.62 mm; Pitch 2.54 mm; ComponentLink1Description: Manufacturer Link; ComponentLink1URL: http://www.onsemi.com/site/products/landing?taxonomyID=194
footprint 646-06 (DIP; 14 Leads; Row Spacing 7.62 mm; Pitch 2.54 mm)
3D model 646-06 (DIP; 14 Leads; Row Spacing 7.62 mm; Pitch 2.54 mm)
simulation model MPQ3906 (PNP)
signal-integrity model MPQ3906
part A pins: 1 C, 2 B, 3 E
part B pins: 5 E, 6 B, 7 C
part C pins: 8 C, 9 B, 10 E
part D pins: 12 E, 13 B, 14 C

## MPQ6426
designator Q?
Quad Darlington Transistor NPN Silicon; Note: Pins 4 and 11 are not connected and not drawn.; Published: 29-Sep-2000; LatestRevisionDate: 06-Jun-2005; LatestRevisionNote: Stylized 3D Model Added.; DatasheetVersion: 1991; PackageVersion: 1997; PackageReference: 646-06; Publisher: Altium Limited; PackageDescription: DIP; 14 Leads; Row Spacing 7.62 mm; Pitch 2.54 mm; ComponentLink1Description: Manufacturer Link; ComponentLink1URL: http://www.onsemi.com/site/products/landing?taxonomyID=194
footprint 646-06 (DIP; 14 Leads; Row Spacing 7.62 mm; Pitch 2.54 mm)
3D model 646-06 (DIP; 14 Leads; Row Spacing 7.62 mm; Pitch 2.54 mm)
simulation model MPQ6426 (SUBCKT)
part A pins: 1 C, 2 B, 3 E
part B pins: 5 E, 6 B, 7 C
part C pins: 8 C, 9 B, 10 E
part D pins: 12 E, 13 B, 14 C

## MPQ7041
designator Q?
Quad Amplifier Transistor NPN Silicon; Note: Pins 4 and 11 are not connected and not drawn.; Published: 29-Sep-2000; LatestRevisionDate: 06-Jun-2005; LatestRevisionNote: Stylized 3D Model Added.; DatasheetVersion: 1991; PackageVersion: 1997; PackageReference: 646-06; Publisher: Altium Limited; PackageDescription: DIP; 14 Leads; Row Spacing 7.62 mm; Pitch 2.54 mm; ComponentLink1Description: Manufacturer Link; ComponentLink1URL: http://www.onsemi.com/site/products/landing?taxonomyID=194
footprint 646-06 (DIP; 14 Leads; Row Spacing 7.62 mm; Pitch 2.54 mm)
3D model 646-06 (DIP; 14 Leads; Row Spacing 7.62 mm; Pitch 2.54 mm)
simulation model MPQ7041 (NPN)
signal-integrity model MPQ7041
part A pins: 1 C, 2 B, 3 E
part B pins: 5 E, 6 B, 7 C
part C pins: 8 C, 9 B, 10 E
part D pins: 12 E, 13 B, 14 C

## MPQ7042
designator Q?
Quad Amplifier Transistor NPN Silicon; Note: Pins 4 and 11 are not connected and not drawn.; Published: 29-Sep-2000; LatestRevisionDate: 06-Jun-2005; LatestRevisionNote: Stylized 3D Model Added.; DatasheetVersion: 1991; PackageVersion: 1997; PackageReference: 646-06; Publisher: Altium Limited; PackageDescription: DIP; 14 Leads; Row Spacing 7.62 mm; Pitch 2.54 mm; ComponentLink1Description: Manufacturer Link; ComponentLink1URL: http://www.onsemi.com/site/products/landing?taxonomyID=194
footprint 646-06 (DIP; 14 Leads; Row Spacing 7.62 mm; Pitch 2.54 mm)
3D model 646-06 (DIP; 14 Leads; Row Spacing 7.62 mm; Pitch 2.54 mm)
simulation model MPQ7042 (NPN)
signal-integrity model MPQ7042
part A pins: 1 C, 2 B, 3 E
part B pins: 5 E, 6 B, 7 C
part C pins: 8 C, 9 B, 10 E
part D pins: 12 E, 13 B, 14 C